# Altium schematic symbol library zhangchong.SchLib: 17 symbols
Pins are listed as number, name and electrical type; pins without a type are passive.

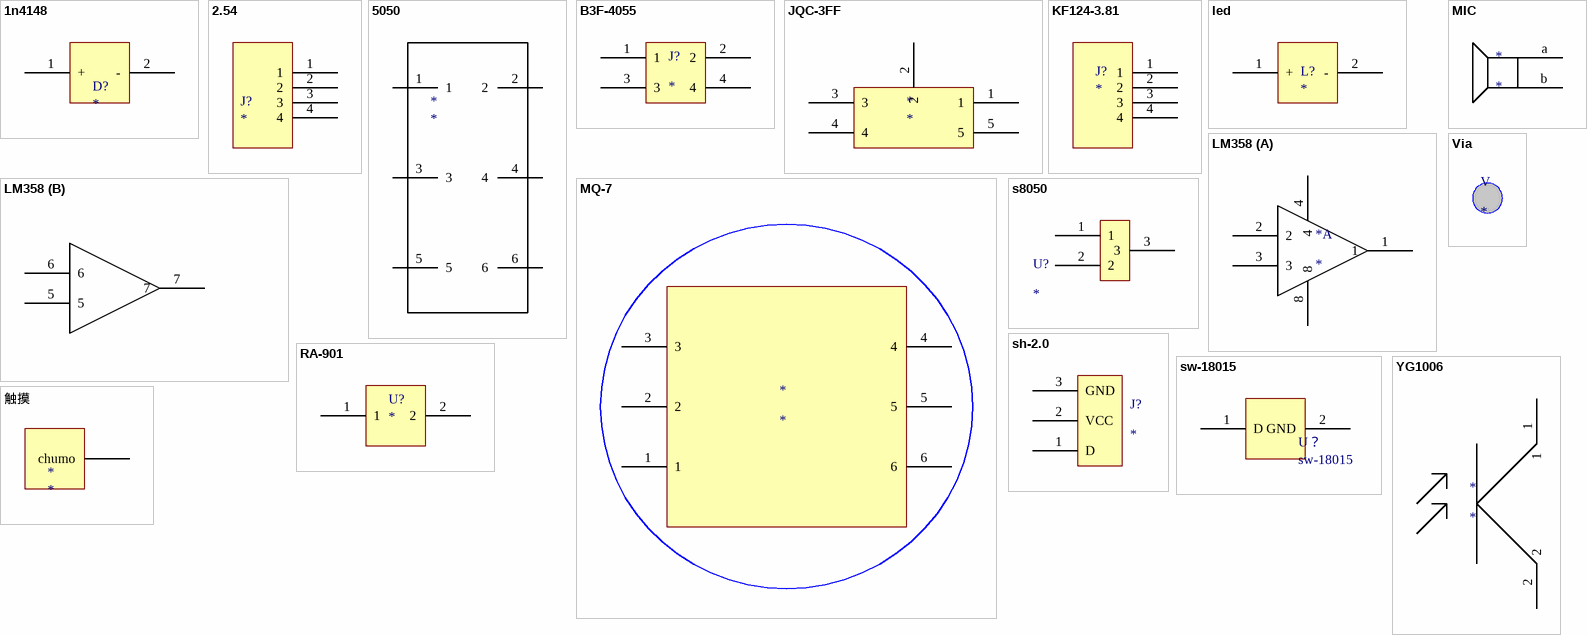
[diagram p0: symbols 1n4148 to 触摸]

## 1n4148
designator D?
footprint SOD-323
pins: 1 +, 2 -

## 2.54
designator J?
footprint pz-2.54
pins: 1, 2, 3, 4

## 5050
designator *
footprint 5050
pins: 1, 2, 3, 4, 5, 6

## B3F-4055
designator J?
footprint B3F
pins: 1, 2, 3, 4

## JQC-3FF
designator *
footprint JQC-3FF
pins: 1, 2, 3, 4, 5

## KF124-3.81
designator J?
footprint KF124-3.81
pins: 1, 2, 3, 4

## led
designator L?
footprint SOD-323
pins: 1 +, 2 -

## LM358
designator *
part A pins: 1, 2, 3, 4, 8
part B pins: 5, 6, 7

## MIC
designator *
footprint Soundsenor
pins: a 1, b 2

## MQ-7
designator *
footprint MQ-7
pins: 1, 2, 3, 4, 5, 6

## RA-901
designator U?
footprint RA-901
pins: 1, 2

## s8050
designator U?
footprint SOT-23
pins: 1, 2, 3

## sh-2.0
designator J?
footprint sh-2.0
pins: 1 D, 2 VCC, 3 GND

## sw-18015
designator U？
footprint sw-18015
pins: 1 D, 2 GND

## Via
designator V
footprint Via

## YG1006
designator *
footprint Q
pins: 1, 2

## 触摸
designator *
footprint 触摸
pins: ?1 chumo